# EAGLE library part BQ27530YZFT-G1 (library 32bits)
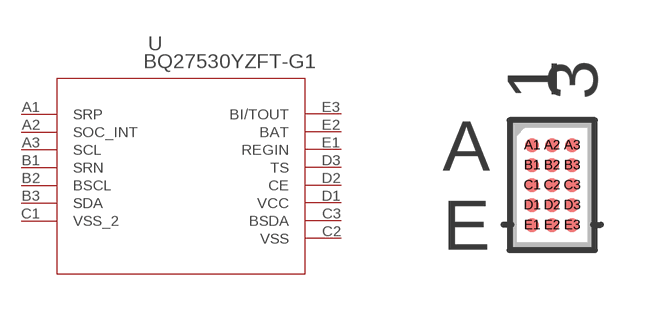
[diagram p14: symbol with the pads of YZF15; footprint YZF15]

Designator prefix U

## BQ27530YZFT-G1 (MANUFACTURER_PART_NUMBER: bq27530yzftg1; VENDOR: Texas Instruments)  [YZF15]
A1  SRP  in
A2  SOC_INT
A3  SCL  in
B1  SRN  in
B2  BSCL  out
B3  SDA
C1  VSS_2  pwr
C2  VSS  pwr
C3  BSDA
D1  VCC  pwr
D2  CE  in
D3  TS  in
E1  REGIN  in
E2  BAT  in
E3  BI/TOUT

## Footprint YZF15 (pad centres in mm)
smd 0.356 x 0.356: A1 -0.5,1; A2 0,1; A3 0.5,1; B1 -0.5,0.5; B2 0,0.5; B3 0.5,0.5; C1 -0.5,0; C2 0,0; C3 0.5,0; D1 -0.5,-0.5; D2 0,-0.5; D3 0.5,-0.5; E1 -0.5,-1; E2 0,-1; E3 0.5,-1